# Altium schematic symbol library Schlib1.SchLib: 4 symbols
Pins are listed as number, name and electrical type; pins without a type are passive.

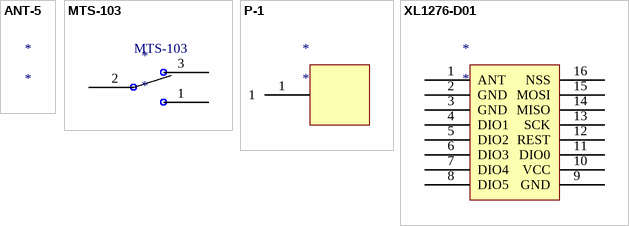
[diagram p0: symbols ANT-5 to XL1276-D01]

## ANT-5
designator *

## MTS-103
designator *
footprint MTS-103
pins: 1, 2, 3

## P-1
designator *
pins: 1

## XL1276-D01
designator *
footprint XL1278-DO1
pins: 1 ANT, 2 GND, 3 GND, 4 DIO1, 5 DIO2, 6 DIO3, 7 DIO4, 8 DIO5, 9 GND, 10 VCC, 11 DIO0, 12 REST, 13 SCK, 14 MISO, 15 MOSI, 16 NSS